# Altium footprint library CN_NEB21R.PcbLib: 1 footprints
Each footprint in its own frame and in the unit in brackets; x right, y up, seen from the top. Pads: shape width x height; smd on the part's side, far side on the other; paste and mask are expansions set on the pad; w line width, h text height; cw(c..) or ccw(c..) is an arc to the next point about the centre after c.
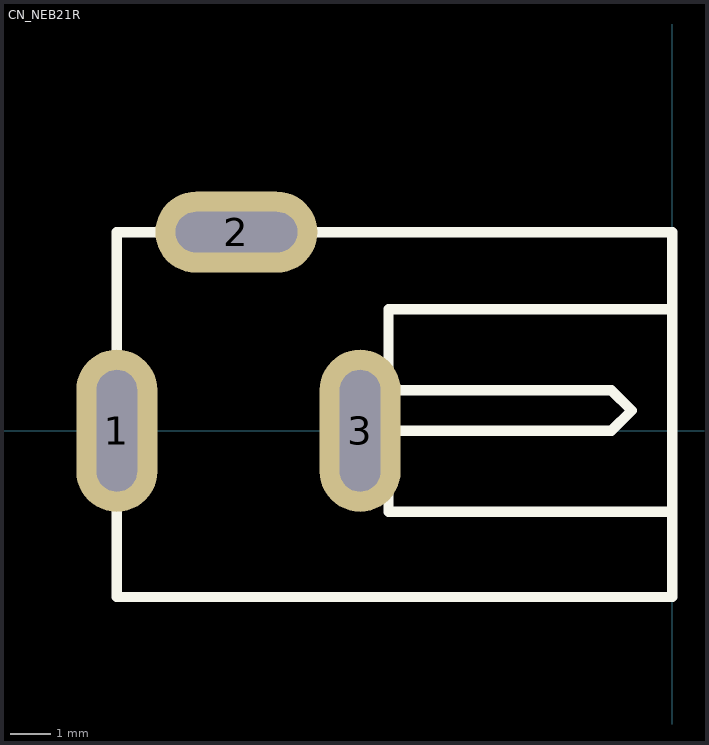
[diagram p0: the footprint, top view; thin cyan lines are the x and y axes]

## CN_NEB21R [mm] "Power supply connector 12V/1A"
pads (3):
  oval 2x4 hole 1 slot 3 at 90 deg: 1(-13.7,0) 3(-7.7,0)
  oval 4x2 hole 1 slot 3 at 0 deg: 2(-10.75,4.9)
Top Overlay:
  lines w0.254: -7,0 -1.5,0 -1,0.5 ; -7,1 -1.5,1 -1,0.5 ; 0,-2 -7,-2 -7,3 0,3 ; -1,0.5 -1,0.5 ; -13.7,-4.1 0,-4.1 0,4.9 -13.7,4.9 -13.7,-4.1
Measures:
  rectangle: -14.2,-1.5 -13.2,1.5
  rectangle: -8.2,-1.5 -7.2,1.5
  region: -9.3,4.4 -9.3,5.4 -12.2,5.4 -12.2,4.4
3D body: height 11, standoff -4, extent -14.5,-4.5 0,5.3